# EAGLE library part ADS124S0X (library ADC-Erweiterung)
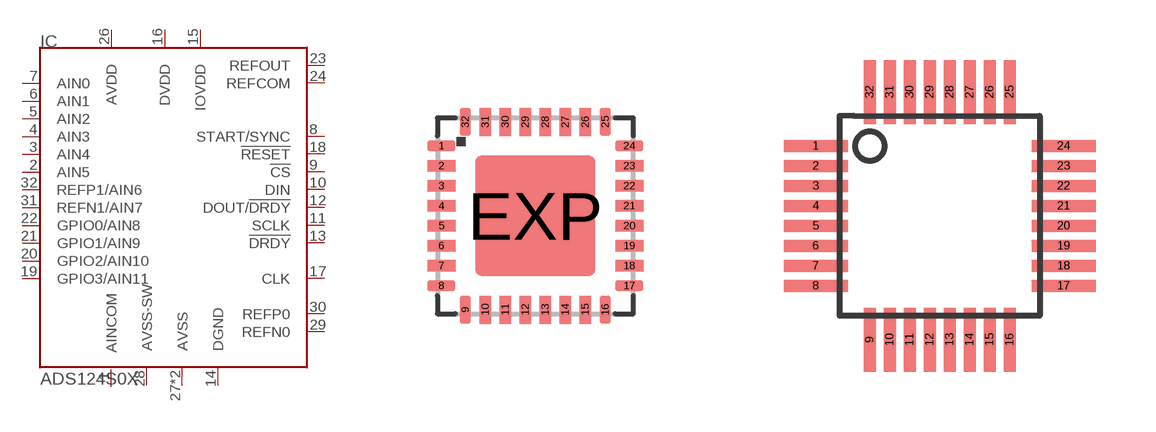
[diagram p0: symbol with the pads of HVQFN32; footprints HVQFN32, TQFP32-05]

Designator prefix IC

## ADS124S0XIRHB  [HVQFN32]
1  AINCOM
2  AIN5
3  AIN4
4  AIN3
5  AIN2
6  AIN1
7  AIN0
8  START/SYNC
9  !CS
10  DIN
11  SCLK
12  DOUT/!DRDY
13  !DRDY
14  DGND
15  IOVDD
16  DVDD
17  CLK
18  !RESET
19  GPIO3/AIN11
20  GPIO2/AIN10
21  GPIO1/AIN9
22  GPIO0/AIN8
23  REFOUT
24  REFCOM
26  AVDD
27  AVSS
28  AVSS-SW
29  REFN0
30  REFP0
31  REFN1/AIN7
32  REFP1/AIN6
EXP  AVSS

## ADS124S0XIPBS  [TQFP32-05]
1  AINCOM
2  AIN5
3  AIN4
4  AIN3
5  AIN2
6  AIN1
7  AIN0
8  START/SYNC
9  !CS
10  DIN
11  SCLK
12  DOUT/!DRDY
13  !DRDY
14  DGND
15  IOVDD
16  DVDD
17  CLK
18  !RESET
19  GPIO3/AIN11
20  GPIO2/AIN10
21  GPIO1/AIN9
22  GPIO0/AIN8
23  REFOUT
24  REFCOM
26  AVDD
27  AVSS
28  AVSS-SW
29  REFN0
30  REFP0
31  REFN1/AIN7
32  REFP1/AIN6

## Footprint HVQFN32 (pad centres in mm)
HVQFN32 (SOT617-3) 5 x 5 x .85 mm, Pitch 0.5mm Source: http://www.semiconductors.philips.com/acrobat_download/datasheets/TDA9885_TDA9886_2.pdf
smd 0.7 x 0.28: 1 -2.35,1.75; 2 -2.35,1.25; 3 -2.35,0.75; 4 -2.35,0.25; 5 -2.35,-0.25; 6 -2.35,-0.75; 7 -2.35,-1.25; 8 -2.35,-1.75; 17 2.35,-1.75; 18 2.35,-1.25; 19 2.35,-0.75; 20 2.35,-0.25; 21 2.35,0.25; 22 2.35,0.75; 23 2.35,1.25; 24 2.35,1.75
smd 0.28 x 0.7: 9 -1.75,-2.35; 10 -1.25,-2.35; 11 -0.75,-2.35; 12 -0.25,-2.35; 13 0.25,-2.35; 14 0.75,-2.35; 15 1.25,-2.35; 16 1.75,-2.35; 25 1.75,2.35; 26 1.25,2.35; 27 0.75,2.35; 28 0.25,2.35; 29 -0.25,2.35; 30 -0.75,2.35; 31 -1.25,2.35; 32 -1.75,2.35
smd 3 x 3: EXP 0,0

## Footprint TQFP32-05 (pad centres in mm)
Thin Plasic Quad Flat Package Grid 0.5 mm
smd 1.6 x 0.3: 1 -3.1,1.75; 2 -3.1,1.25; 3 -3.1,0.75; 4 -3.1,0.25; 5 -3.1,-0.25; 6 -3.1,-0.75; 7 -3.1,-1.25; 8 -3.1,-1.75; 17 3.1,-1.75; 18 3.1,-1.25; 19 3.1,-0.75; 20 3.1,-0.25; 21 3.1,0.25; 22 3.1,0.75; 23 3.1,1.25; 24 3.1,1.75
smd 0.3 x 1.6: 9 -1.75,-3.1; 10 -1.25,-3.1; 11 -0.75,-3.1; 12 -0.25,-3.1; 13 0.25,-3.1; 14 0.75,-3.1; 15 1.25,-3.1; 16 1.75,-3.1; 25 1.75,3.1; 26 1.25,3.1; 27 0.75,3.1; 28 0.25,3.1; 29 -0.25,3.1; 30 -0.75,3.1; 31 -1.25,3.1; 32 -1.75,3.1